# Altium footprint library surfaceMount.PcbLib: 37 footprints (part 2 of 3)
Each footprint in its own frame and in the unit in brackets; x right, y up, seen from the top. Pads: shape width x height; smd on the part's side, far side on the other; paste and mask are expansions set on the pad; w line width, h text height; cw(c..) or ccw(c..) is an arc to the next point about the centre after c.
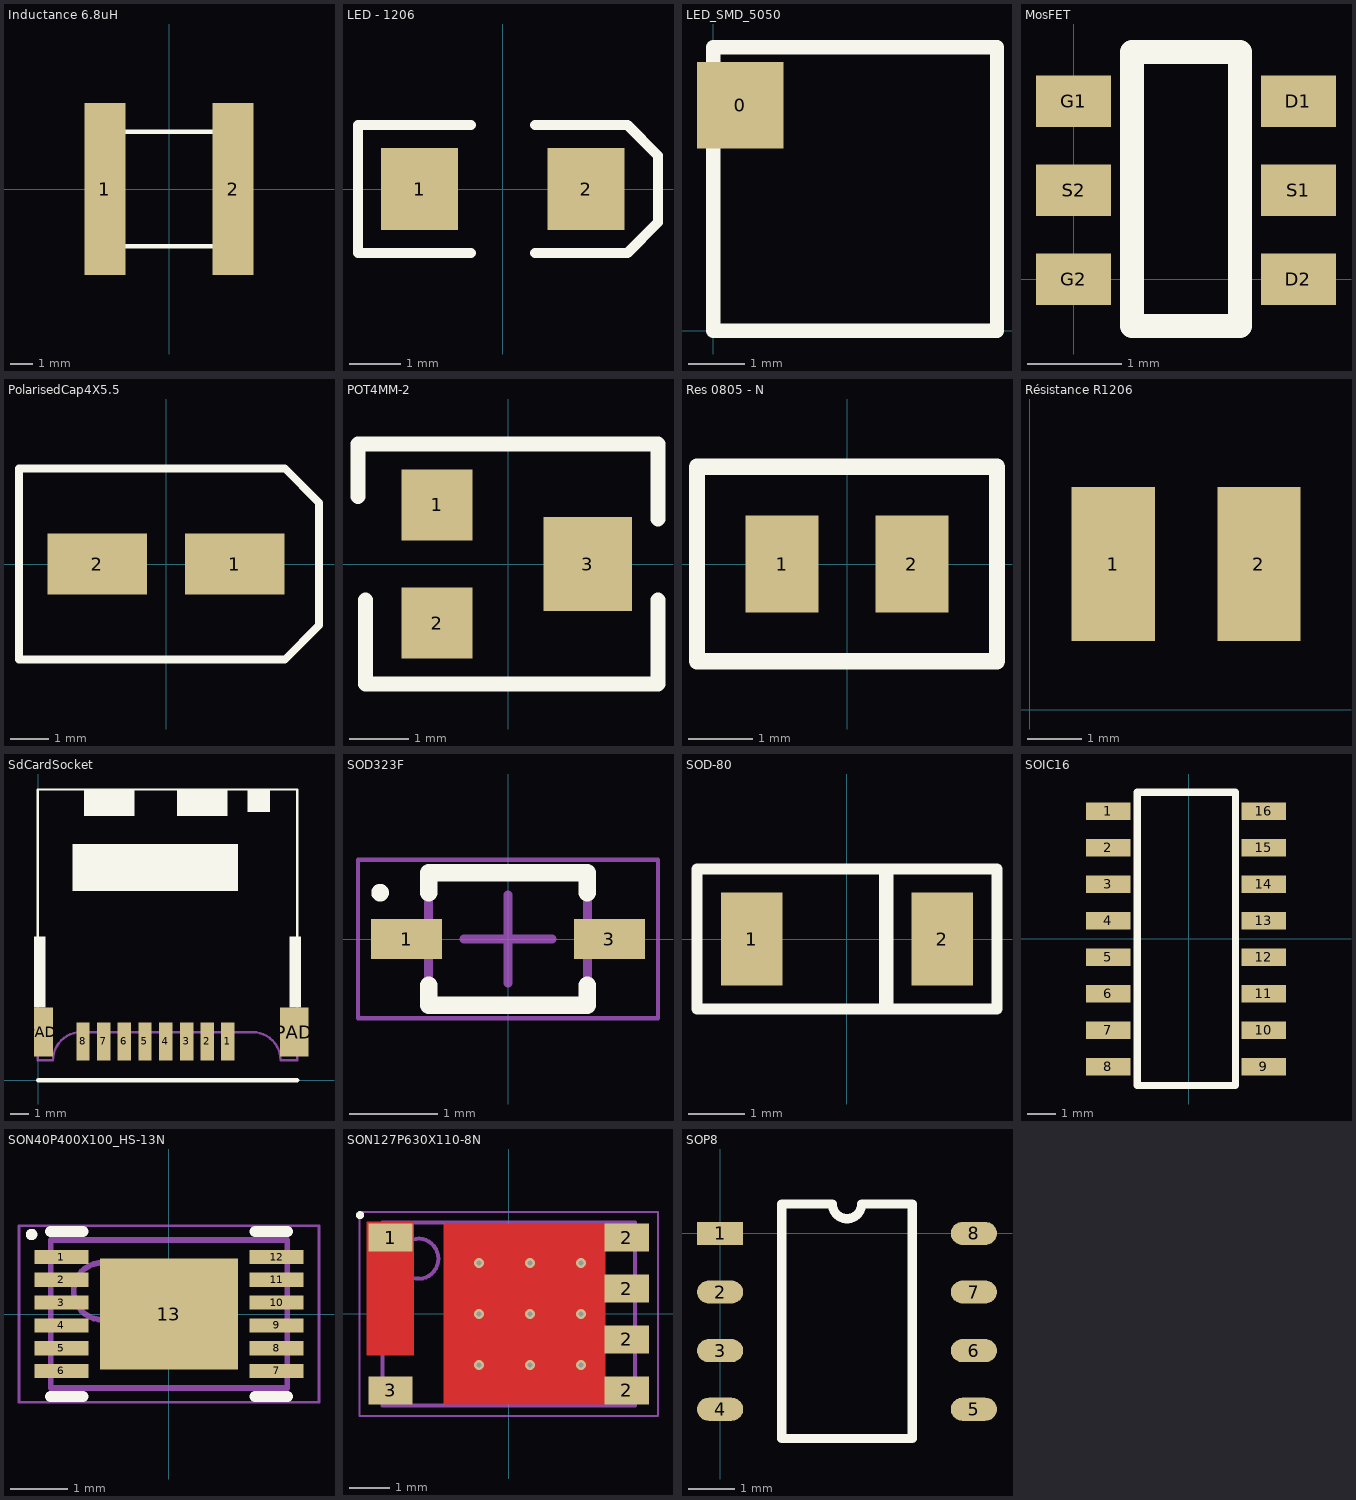
[diagram p1: the footprints below, top view; thin cyan lines are the x and y axes]

## Inductance 6.8uH [mm]
pads (2):
  rect 1.8x7.5 smd: 1(-2.8,0) 2(2.8,0)
Top Overlay:
  lines w0.2: -2.45,-2.5 -2.45,0 -2.45,2.5 2.45,2.5 2.45,-2.5 -2.45,-2.5

## LED - 1206 [mm]
pads (2):
  rect 1.5x1.6 smd: 1(-1.625,0) 2(1.625,0)
Top Overlay:
  lines w0.2: -0.625,-1.25 -2.825,-1.25 -2.825,0 -2.825,1.25 -0.625,1.25 ; 0.625,-1.25 2.175,-1.25 2.425,-1.25 3.025,-0.65 3.025,0.65 2.425,1.25 0.625,1.25
3D body "User Library-led_1206LED1206 green.STEP": height 1.1, standoff 0, extent -1.61,-0.8 1.61,0.8

## Led_smd_5030 [mm]

## LED_SMD_5050 [mm]
pads (1):
  rect 1.524x1.524 smd: 0(0.475,3.975)
Top Overlay:
  lines w0.254: 0,0 5,0 5,5 0,5 0,0

## MosFET [mm] "DMN2215UDMDICT-ND"
pads (6):
  rect 0.8x0.55 smd: D1(2.4,1.9) D2(2.4,0) G1(0,1.9) G2(0,0) S1(2.4,0.95) S2(0,0.95)
Top Overlay:
  lines w0.254: 0.625,-0.5 1.775,-0.5 1.775,2.425 0.625,2.425 0.625,-0.5

## PolarisedCap4X5.5 [mm]
pads (2):
  rect 2.6x1.6 smd: 1(1.8,0) 2(-1.8,0)
Top Overlay:
  lines w0.2: -3.85,-2.5 -3.85,0 -3.85,2.5 3.1,2.5 4,1.6 4,-1.6 3.1,-2.5 -3.85,-2.5
3D body "Cap 4x5_4.STEP": height 5.7, standoff 0, extent -2.65,-2.15 2.65,2.15

## POT4MM-2 [mm] "Square Trimming Potentiometer"
pads (3):
  rect 1.2x1.2 smd: 1(-1.2,1) 2(-1.2,-1)
  rect 1.5x1.6 smd: 3(1.35,0)
Top Overlay:
  lines w0.254: -2.54,1.147 -2.54,2.032 2.54,2.032 2.54,0.762 ; -2.413,-0.61 -2.413,-2.032 2.54,-2.032 2.54,-0.61

## Res 0805 - N [mil]
pads (2):
  rect 45x60 smd: 1(-40,0) 2(40,0)
Top Overlay:
  lines w10: -92.5,-60 92.5,-60 92.5,60 -92.5,60 -92.5,0 -92.5,-60
3D body "RES_0805.step": height 29.92, standoff 0, extent -45.27,-26.57 45.28,26.58

## Résistance R1206 [mil]
pads (2):
  rect 60x111 smd: 1(60,105) 2(165,105)

## SdCardSocket [mil]
pads (10):
  rect 28x79 smd: 1(397.19,81.18) 2(354.19,81.18) 3(311.19,81.18) 4(267.25,81.18) 5(223.95,81.18) 6(180.64,81.18) 7(137.33,81.18) 8(94.03,81.18)
  rect 60x103 smd: PAD(537.19,100.87)
  rect 40x103 smd: PAD.(11.35,100.87)
Top Overlay:
  rectangle: 527.19,152.05 551.19,301.65
  rectangle: -8.34,152.05 15.29,301.65
  rectangle: 72.37,396.28 419.19,495.28
  rectangle: 439.19,562.28 486.19,609.28
  rectangle: 291.19,554.28 397.19,609.28
  rectangle: 95.99,554.28 202.29,609.28
  lines w5: -0.46,159.92 -0.46,609.28 543.19,609.28 543.19,159.92
  lines w10: 0,0 542.32,0
Mechanical 16:
  lines w5: -0.46,159.92 -0.46,41.81 31.03,41.81 cw(c90.09,41.81) 90.09,100.87 271.19,100.87 449.19,100.87 cw(c449.16,41.84) 508.19,41.81 543.19,41.81 543.19,159.92

## SOD323F [mm] "SODFL, 2-Leads, Body 1,30x2,50mm, IPC Medium Density"
height 1
pads (2):
  rect 0.8x0.45 smd: 1(-1.15,0) 3(1.15,0)
Top Overlay:
  circle w0.1: c-1.45,0.525 r0.05
  lines w0.2: -0.9,-0.525 -0.9,-0.75 0.9,-0.75 0.9,-0.525 ; -0.9,0.525 -0.9,0.75 0.9,0.75 0.9,0.525
Mechanical 13:
  lines w0.1: -0.9,-0.725 0.9,-0.725 0.9,0.725 -0.9,0.725 -0.9,-0.725
Mechanical 15:
  lines w0.05: -1.7,-0.9 1.7,-0.9 1.7,0.9 -1.7,0.9 -1.7,-0.9
  lines w0.1: -0.5,0 0.5,0 ; 0,-0.5 0,0.5
3D body "SODFL250X100-2N.step": height 1, standoff 0, extent -1.25,-0.725 1.25,0.725

## SOD-80 [mm]
pads (2):
  rect 1.1x1.65 smd: 1(-1.7,0) 2(1.7,0)
Top Overlay:
  lines w0.2: -2.675,-1.25 2.675,-1.25 2.675,1.25 -2.675,1.25 -2.675,0 -2.675,-1.25
  lines w0.254: 0.7,-1.2 0.7,1.175
3D body "User Library-SOD80-3.STEP": height 1.5, standoff 0, extent -1.8,-0.75 1.8,0.75

## SOIC16 [mm]
pads (16):
  rect 1.55x0.6 smd: 1(-2.8,4.44) 2(-2.8,3.17) 3(-2.8,1.9) 4(-2.8,0.63) 5(-2.8,-0.64) 6(-2.8,-1.91) 7(-2.8,-3.18) 8(-2.8,-4.45) 9(2.6,-4.45) 10(2.6,-3.18) 11(2.6,-1.91) 12(2.6,-0.64) 13(2.6,0.63) 14(2.6,1.9) 15(2.6,3.17) 16(2.6,4.44)
Top Overlay:
  lines w0.254: -1.8,-5.1 1.625,-5.1 1.625,5.1 -1.8,5.1 -1.8,-5.1
3D body "User Library-so16.STEP": height 1.7, standoff 0, extent -3,-5.1 3,5.1

## SON40P400X100_HS-13N [mm] "SON, 12-Leads, Body 2,50x4,00mm, Pitch 0,40mm, Thermal Pad 1,95x2,43mm, IPC Medium Density"
height 1
pads (13):
  rect 0.95x0.25 smd: 1(-1.89,1) 2(-1.89,0.6) 3(-1.89,0.2) 4(-1.89,-0.2) 5(-1.89,-0.6) 6(-1.89,-1) 7(1.89,-1) 8(1.89,-0.6) 9(1.89,-0.2) 10(1.89,0.2) 11(1.89,0.6) 12(1.89,1)
  rect 2.43x1.95 smd: 13(0,0)
Top Overlay:
  circle w0.1: c-2.413,1.397 r0.05
  lines w0.2: -2.075,-1.45 -1.515,-1.45 ; -2.075,1.45 -1.515,1.45 ; 1.515,-1.45 2.075,-1.45 ; 1.515,1.45 2.075,1.45
Mechanical 13:
  circle w0.1: c-1.175,0.4 r0.5
  lines w0.1: -2.075,-1.3 2.075,-1.3 2.075,1.3 -2.075,1.3 -2.075,-1.3
Mechanical 15:
  lines w0.05: -2.635,-1.55 2.635,-1.55 2.635,1.55 -2.635,1.55 -2.635,-1.55
  lines w0.1: -0.5,0 0.5,0 ; 0,-0.5 0,0.5
3D body "SON40P400X100_HS-13N.step": height 1, standoff 0, extent -2.275,-1.3 2.275,1.3

## SON127P630X110-8N [mm] "SON, 8-Leads, Body 4,51x6,25mm, Pitch 1,27mm, IPC Medium Density"
height 1.1
pads (6):
  rect 1.1x0.7 smd: 1(-2.95,1.905) 2(2.95,-1.905) 2(2.95,-0.635) 2(2.95,0.635) 2(2.95,1.905) 3(-2.95,-1.905)
via -0.737,1.27 diameter 0.254 hole 0.127
via 0.533,1.27 diameter 0.254 hole 0.127
via 1.803,1.27 diameter 0.254 hole 0.127
via -0.737,0 diameter 0.254 hole 0.127
via 0.533,0 diameter 0.254 hole 0.127
via 1.803,0 diameter 0.254 hole 0.127
via -0.737,-1.27 diameter 0.254 hole 0.127
via 0.533,-1.27 diameter 0.254 hole 0.127
via 1.803,-1.27 diameter 0.254 hole 0.127
via 1.803,-1.27 diameter 0.254 hole 0.127
via 0.533,-1.27 diameter 0.254 hole 0.127
via -0.737,-1.27 diameter 0.254 hole 0.127
Top Layer:
  rectangle: -3.556,-1.041 -2.362,2.311
  rectangle: -1.626,-2.261 2.413,2.261
Top Overlay:
  circle w0.1: c-3.712,2.467 r0.05
Mechanical 13:
  circle w0.1: c-2.255,1.38 r0.5
  lines w0.1: -3.155,-2.28 3.155,-2.28 3.155,2.28 -3.155,2.28 -3.155,-2.28
Mechanical 15:
  lines w0.05: -3.73,-2.55 3.73,-2.55 3.73,2.55 -3.73,2.55 -3.73,-2.55
  lines w0.1: -0.5,0 0.5,0 ; 0,-0.5 0,0.5
3D body: height 1.1, standoff 0.2, extent -3.155,-2.28 3.155,2.28

## SOP8 [mm]
pads (8):
  rect 1x0.5 smd: 1(0,0)
  oval 1x0.5 smd: 2(0,-1.27) 3(0,-2.54) 4(0,-3.81) 5(5.5,-3.81) 6(5.5,-2.54) 7(5.5,-1.27) 8(5.5,0)
Top Overlay:
  lines w0.2: 1.335,-4.445 1.335,0.635 2.432,0.635 ccw(c2.75,0.635) 3.067,0.635 4.165,0.635 4.165,-4.445 1.335,-4.445